# Altium footprint library Drivers.PcbLib: 2 footprints
Each footprint in its own frame and in the unit in brackets; x right, y up, seen from the top. Pads: shape width x height; smd on the part's side, far side on the other; paste and mask are expansions set on the pad; w line width, h text height; cw(c..) or ccw(c..) is an arc to the next point about the centre after c.
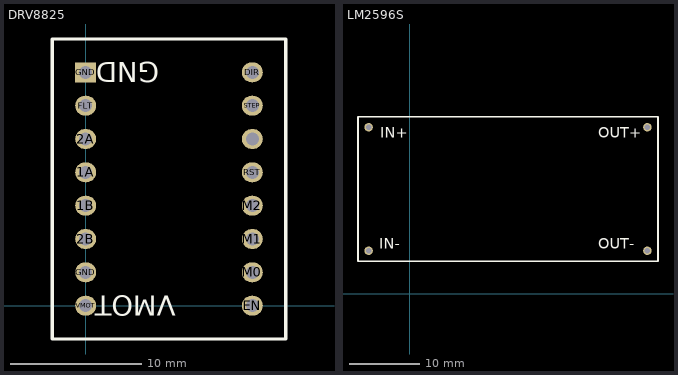
[diagram p0: the footprints below, top view; thin cyan lines are the x and y axes]

## DRV8825 [mm] "DRV8825 stepper motor driver module"
pads (16):
  oval 1.6x1.524 hole 1 mask+0: 1A(0,10.16) 1B(0,7.62) 2A(0,12.7) 2B(0,5.08) DIR(12.7,17.78) EN(12.7,0) FLT(0,15.24) GND(0,2.54) M0(12.7,2.54) M1(12.7,5.08) M2(12.7,7.62) RST(12.7,10.16) SLEEP(12.7,12.7) STEP(12.7,15.24) VMOT(0,0)
  rect 1.6x1.524 hole 1 mask+0: GND(0,17.78)
Top Overlay:
  lines w0.254: -2.54,-2.54 -2.54,20.32 15.24,20.32 15.24,-2.54 -2.54,-2.54
  text "VMOT" at 6.858,0.762 h1.52
  text "GND" at 5.588,18.542 h1.52

## LM2596S [mm]
pads (4):
  round 1.2 hole 0.8: IN+(-5.842,23.596) IN-(-5.842,6.096) OUT+(33.658,23.596) OUT-(33.658,6.096)
Top Overlay:
  lines w0.254: -7.342,4.596 -7.342,25.096 35.158,25.096 35.158,4.596 -7.342,4.596
  text "IN+" at -4.191,22.098 h1.52
  text "IN-" at -4.318,6.35 h1.52
  text "OUT-" at 26.67,6.35 h1.52
  text "OUT+" at 26.67,22.098 h1.52